# Altium schematic symbol library SpecialFunctionalPart.SchLib: 9 symbols
Pins are listed as number, name and electrical type; pins without a type are passive.

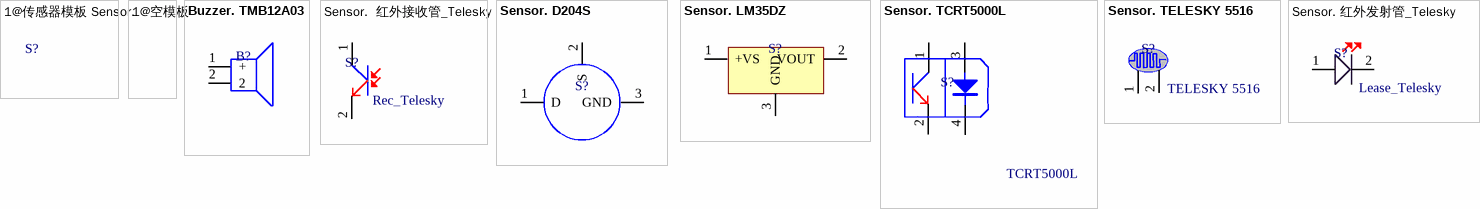
[diagram p0: symbols 1@传感器模板 Sensor. to Sensor. 红外发射管_Telesky]

## 1@传感器模板 Sensor.
designator S?  (value not drawn)
A.元件编号: *; B.元件名称: *; C.元件类型: *; D.元件型号: *; E.封装规格: *; F.阻值(Ω)/容值(μF): *; G.电压: *; H.精度: *; I.焊盘数量: *; J.品牌产地: *; 单价/元: *; 原创: *; 备注: *

## 1@空模板
designator ?  (value not drawn)
A.元件编号: *; B.元件名称: *; C.元件类型: *; D.元件型号: *; E.封装规格: *; F.阻值(Ω)/容值(μF): *; G.电压: *; H.精度: *; I.焊盘数量: *; J.品牌产地: *; 单价/元: *; 原创: *; 备注: *

## Buzzer. TMB12A03
designator B?
3.3V 30mA蜂鸣器; A.元件编号: C96222; B.元件名称: *; C.元件类型: *; D.元件型号: *; E.封装规格: *; F.阻值(Ω)/容值(μF): *; G.电压: *; H.精度: *; I.焊盘数量: *; J.品牌产地: *; 单价/元: *; 原创: *; 备注: *
footprint TMB12A
pins: 1 +, 2

## Sensor.  红外接收管_Telesky
designator S?, comment B.元件名称: Rec_Telesky  (hidden comment: 、红外接收管_Telesky)
红外接收管; C.元件类型: *; D.元件型号: *; E.封装规格: *; F.阻值(Ω)/容值(μF): *; G.电压: *; H.精度: *; I.焊盘数量: *; J.品牌产地: *; 单价/元: *; 原创: *; 备注: https://detail.tmall.com/item.htm?spm=a230r.1.14.4.187e598dnviK8t&id=41248634793&cm_id=140105335569ed55e27b&abbucket=15&skuId=4118524799285
footprint 红外发射接收，平躺
pins: 1, 2

## Sensor. D204S
designator S?
热释电红外传感器; A.元件编号: *; B.元件名称: *; C.元件类型: *; D.元件型号: *; E.封装规格: *; F.阻值(Ω)/容值(μF): *; G.电压: *; H.精度: *; I.焊盘数量: *; J.品牌产地: *; 单价/元: *; 原创: *; 备注: *
footprint TO-5 (热释电红外传感器)
pins: 1 D, 2 S, 3 GND

## Sensor. LM35DZ
designator S?  (value not drawn)
温度传感器; A.元件编号: *; B.元件名称: *; C.元件类型: *; D.元件型号: *; E.封装规格: *; F.阻值(Ω)/容值(μF): *; G.电压: *; H.精度: *; I.焊盘数量: *; J.品牌产地: *; 单价/元: *; 原创: *; 备注: *
footprint TO-92-3
pins: 1 +VS, 2 VOUT, 3 GND

## Sensor. TCRT5000L
designator S?, comment TCRT5000L
光电开关 ，循迹红外发射+红外接收; A.元件编号: C24085; C.元件类型: *; D.元件型号: *; E.封装规格: *; F.阻值(Ω)/容值(μF): *; G.电压: *; H.精度: *; I.焊盘数量: *; J.品牌产地: *; 单价/元: *; 原创: *; 备注: *; B.元件名称: TCRT5000L
footprint 光电开关_TCRT5000L
pins: 1, 2, 3, 4

## Sensor. TELESKY 5516
designator S?, comment TELESKY 5516
光敏电阻; C.元件类型: *; D.元件型号: *; E.封装规格: *; F.阻值(Ω)/容值(μF): *; G.电压: *; H.精度: *; I.焊盘数量: *; J.品牌产地: *; 单价/元: *; 原创: *; 备注: https://detail.tmall.com/item.htm?spm=a230r.1.14.23.7f9113d3eLlEuY&id=41213475712&ns=1&abbucket=15; B.元件名称: TELESKY 5516
footprint 光敏电阻_TELESKY5516
pins: 1, 2

## Sensor. 红外发射管_Telesky
designator S?, comment B.元件名称: Lease_Telesky  (hidden comment: 红外发射管_Telesky)
5mm红外发射管; C.元件类型: 红外发射管; E.封装规格: 直插; F.阻值(Ω)/容值(μF): *; H.精度: *; I.焊盘数量: *; J.品牌产地: *; 单价/元: *; 原创: *; 备注: https://detail.tmall.com/item.htm?spm=a230r.1.14.4.187e598dnviK8t&id=41248634793&cm_id=140105335569ed55e27b&abbucket=15&skuId=4118524799285
footprint 红外发射接收，平躺
pins: 1, 2